# Altium schematic symbol library SCH - MCU - STM32 - ST MICROELECTRONICS STM32L031K(4-6)TX LQFP32.SchLib: 1 symbol
Pins are listed as number, name and electrical type; pins without a type are passive.

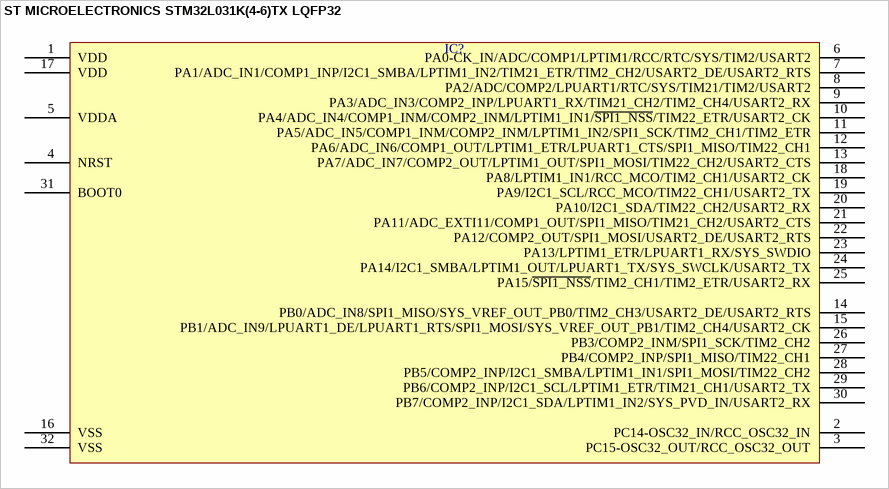
[diagram p0: symbol ST MICROELECTRONICS STM32L031K(4-6)TX LQFP32]

## ST MICROELECTRONICS STM32L031K(4-6)TX LQFP32
designator IC?  (value not drawn)
pins: 1 VDD, 2 PC14-OSC32_IN/RCC_OSC32_IN, 3 PC15-OSC32_OUT/RCC_OSC32_OUT, 4 NRST, 5 VDDA, 6 PA0-CK_IN/ADC/COMP1/LPTIM1/RCC/RTC/SYS/TIM2/USART2, 7 PA1/ADC_IN1/COMP1_INP/I2C1_SMBA/LPTIM1_IN2/TIM21_ETR/TIM2_CH2/USART2_DE/USART2_RTS, 8 PA2/ADC/COMP2/LPUART1/RTC/SYS/TIM21/TIM2/USART2, 9 PA3/ADC_IN3/COMP2_INP/LPUART1_RX/TIM21_CH2/TIM2_CH4/USART2_RX, 10 PA4/ADC_IN4/COMP1_INM/COMP2_INM/LPTIM1_IN1/~{SPI1_NSS}/TIM22_ETR/USART2_CK, 11 PA5/ADC_IN5/COMP1_INM/COMP2_INM/LPTIM1_IN2/SPI1_SCK/TIM2_CH1/TIM2_ETR, 12 PA6/ADC_IN6/COMP1_OUT/LPTIM1_ETR/LPUART1_CTS/SPI1_MISO/TIM22_CH1, 13 PA7/ADC_IN7/COMP2_OUT/LPTIM1_OUT/SPI1_MOSI/TIM22_CH2/USART2_CTS, 14 PB0/ADC_IN8/SPI1_MISO/SYS_VREF_OUT_PB0/TIM2_CH3/USART2_DE/USART2_RTS, 15 PB1/ADC_IN9/LPUART1_DE/LPUART1_RTS/SPI1_MOSI/SYS_VREF_OUT_PB1/TIM2_CH4/USART2_CK, 16 VSS, 17 VDD, 18 PA8/LPTIM1_IN1/RCC_MCO/TIM2_CH1/USART2_CK, 19 PA9/I2C1_SCL/RCC_MCO/TIM22_CH1/USART2_TX, 20 PA10/I2C1_SDA/TIM22_CH2/USART2_RX, 21 PA11/ADC_EXTI11/COMP1_OUT/SPI1_MISO/TIM21_CH2/USART2_CTS, 22 PA12/COMP2_OUT/SPI1_MOSI/USART2_DE/USART2_RTS, 23 PA13/LPTIM1_ETR/LPUART1_RX/SYS_SWDIO, 24 PA14/I2C1_SMBA/LPTIM1_OUT/LPUART1_TX/SYS_SWCLK/USART2_TX, 25 PA15/~{SPI1_NSS}/TIM2_CH1/TIM2_ETR/USART2_RX, 26 PB3/COMP2_INM/SPI1_SCK/TIM2_CH2, 27 PB4/COMP2_INP/SPI1_MISO/TIM22_CH1, 28 PB5/COMP2_INP/I2C1_SMBA/LPTIM1_IN1/SPI1_MOSI/TIM22_CH2, 29 PB6/COMP2_INP/I2C1_SCL/LPTIM1_ETR/TIM21_CH1/USART2_TX, 30 PB7/COMP2_INP/I2C1_SDA/LPTIM1_IN2/SYS_PVD_IN/USART2_RX, 31 BOOT0, 32 VSS